# Altium schematic symbol library Diodes.SchLib: 1 symbol
Pins are listed as number, name and electrical type; pins without a type are passive.

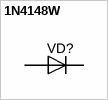
[diagram p0: symbol 1N4148W]

## 1N4148W
designator VD?  (value not drawn)
footprint SODFL1608X70N
pins: A, C